# Altium footprint library ZhuKong.PcbLib: 34 footprints (part 1 of 3)
Each footprint in its own frame and in the unit in brackets; x right, y up, seen from the top. Pads: shape width x height; smd on the part's side, far side on the other; paste and mask are expansions set on the pad; w line width, h text height; cw(c..) or ccw(c..) is an arc to the next point about the centre after c.
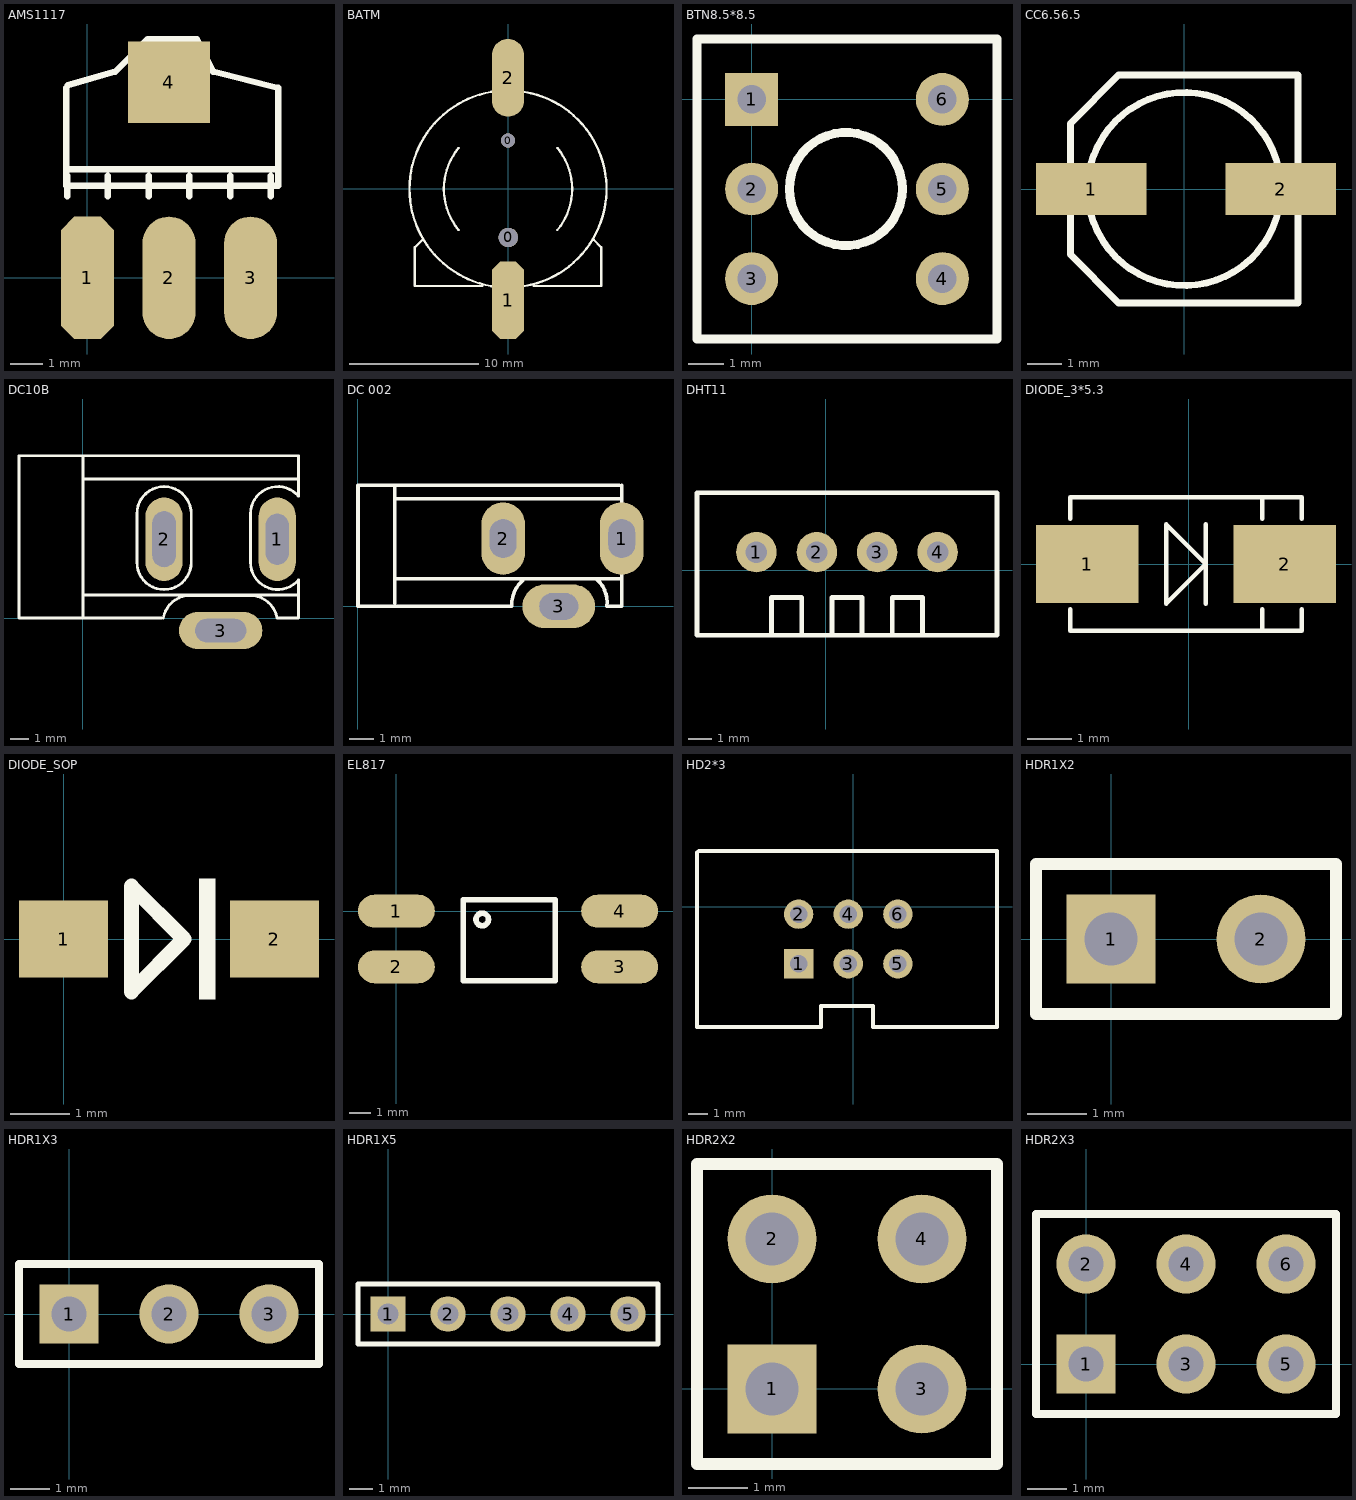
[diagram p0: the footprints below, top view; thin cyan lines are the x and y axes]

## AMS1117 [mil]
pads (4):
  oct 65x150 smd: 1(0.03,-0.06)
  oval 65x150 smd: 2(100.03,-0.06) 3(200.03,-0.06)
  rect 100x100 smd: 4(100.03,239.94)
Top Overlay:
  lines w7.87: -25.97,232.94 -25.97,132.94 ; -24.97,99.94 -24.97,124.94 ; -24.3,236.27 34.03,252.94 74.03,292.94 134.03,292.94 154.03,252.94 234.03,232.94 234.03,112.94 ; 25.03,99.94 25.03,124.94 ; 75.03,99.94 75.03,124.94 ; 125.03,99.94 125.03,124.94 ; 175.03,99.94 175.03,124.94 ; 225.03,99.94 225.03,124.94 ; -25.97,132.94 234.03,132.94 234.03,112.94 ; -25.97,132.94 -25.97,112.94 234.03,112.94
3D body: height 62.6, standoff -2.36, extent -27.94,-52.8 227.96,222.8

## BATM [mm]
pads (4):
  round 1.1 hole 1.1 unplated: 0(0,3.748)
  round 1.5 hole 1.5 unplated: 0(0.025,-3.752)
  oct 2.5x6 smd: 1(0,-8.602)
  oval 2.5x6 smd: 2(0,8.598)
Top Overlay:
  lines w0.178: -6.6,-3.902 -7.2,-4.502 -7.2,-7.502 -2,-7.502 ; -3.815,-3.171 cw(c0,-0.002) -3.812,3.171 ; -0.833,-7.576 cw(c0,-0.002) -7.62,-0.002 cw(c0,-0.002) -0.833,7.573 ; 0.833,-7.576 ccw(c0,-0.002) 0.833,7.573 ; 2,-7.502 7.2,-7.502 7.2,-4.502 6.625,-3.927 ; 3.81,-3.177 ccw(c0,-0.002) 3.812,3.171

## BTN8.5*8.5 [mm]
pads (6):
  rect 1.5x1.5 hole 0.8: 1(0,0)
  round 1.5 hole 0.8: 2(0,-2.54) 3(0,-5.08) 4(5.4,-5.08) 5(5.4,-2.54) 6(5.4,0)
Top Overlay:
  circle w0.254: c2.667,-2.54 r1.6
  lines w0.254: -1.55,-6.79 6.95,-6.79 6.95,1.71 -1.55,1.71 -1.55,-6.79
3D body: height 14, standoff -3.5, extent -1.397,-6.849 7.103,1.651

## CC6.56.5 [mm]
pads (2):
  rect 3.2x1.5 smd: 1(-2.7,0) 2(2.8,0)
Top Overlay:
  circle w0.2: c0,0 r2.8
  lines w0.2: -3.302,-1.905 -3.302,1.905 -1.905,3.302 3.302,3.302 3.302,-3.302 -1.905,-3.302 -3.302,-1.905
3D body: height 1.3, standoff 0, extent -2.215,-3.175 3.485,3.175

## DC10B [mil]
pads (3):
  oval 80x180 hole 50 slot 110 at 90 deg: 1(419.09,170)
  oval 80x180 hole 50 slot 120 at 90 deg: 2(175,170)
  oval 180x80 hole 50 slot 110 at 0 deg: 3(297.05,-26.85)
Top Overlay:
  lines w6: 0,50 465,50 ; 0,300 460.13,300 464.25,300 ; 5,350 -15,350 -137.8,350 -137.8,0 0,0 ; 169,0 0,0 ; 173.37,0.16 cw(c231,-10) 231,48.52 361,48.52 cw(c361,-10) 418.63,0.16 ; 420,0 465,0 465,80 ; 464.83,82.38 cw(c420,120) 361.48,120 361.48,225 cw(c420,225) 464.83,262.62 465,350 0,350 0,0 ; 233.52,225 ccw(c175,225) 116.48,225 116.48,120 ccw(c175,120) 233.52,120 233.52,225 ; 233.52,225 233.52,225
3D body: height 430, standoff -140, extent -130,-32.5 445,342.5

## DC 002 [mm]
pads (3):
  oval 1.8x3 hole 1.1 slot 1.6 at 90 deg: 1(10.9,2.8) 2(6,2.8)
  oval 3x1.8 hole 1.1 slot 1.6 at 0 deg: 3(8.3,0)
Top Overlay:
  lines w0.152: 1.524,0.127 1.524,5 ; 1.524,1.143 10.9,1.143 ; 1.524,4.445 10.9,4.445 ; 6.8,1.065 ccw(c7.683,0.064) 6.35,0 0,0 0,5 10.795,5 ; 9.874,1.107 cw(c9.065,0.174) 10.287,0 10.9,0 10.9,5

## DHT11 [mm]
pads (4):
  round 1.7 hole 0.9: 1(-2.921,0.762) 2(-0.381,0.762) 3(2.159,0.762) 4(4.699,0.762)
Top Overlay:
  lines w0.203: -5.421,-2.738 4.699,-2.738 7.199,-2.738 ; -5.421,-2.698 -5.421,0.762 -5.421,3.262 4.699,3.262 7.199,3.262 7.199,0.762 7.199,-2.698 ; -2.286,-2.738 -2.286,-1.143 -1.016,-1.143 -1.016,-2.738 ; 0.254,-2.738 0.254,-1.143 1.524,-1.143 1.524,-2.738 ; 2.794,-2.738 2.794,-1.143 4.064,-1.143 4.064,-2.738
3D body: height 7, standoff -3.4, extent -5.288,-2.923 7.112,3.177

## DIODE_3*5.3 [mm]
pads (2):
  rect 2.3x1.75 smd: 1(-2.286,0) 2(2.159,0)
Top Overlay:
  lines w0.1: -2.667,-1.016 -2.667,-1.5 2.54,-1.5 2.54,-1.016 ; -2.667,1.016 -2.667,1.5 2.54,1.5 2.54,1.016 ; 0.381,-0.889 0.381,0.889 ; 1.651,-1.5 1.651,-1.016 ; 1.651,1.016 1.651,1.5 ; -0.508,-0.889 -0.508,0.889 0.381,0 -0.508,-0.889
3D body: height 1.27, standoff 0, extent -1.977,-0.8 1.723,0.8

## DIODE_SOP [mm]
pads (2):
  rect 1.5x1.3 smd: 1(0,0) 2(3.556,0)
Top Overlay:
  rectangle: 2.286,-1.016 2.559,1.016
  lines w0.254: 1.143,-0.889 1.143,0.889 2.032,0 1.143,-0.889
3D body: height 1.27, standoff 0, extent -0.072,-0.8 3.628,0.8

## EL817 [mm]
pads (4):
  oval 3.5x1.5 smd: 1(0,0) 2(0,-2.54) 3(10.16,-2.54) 4(10.16,0)
Top Overlay:
  circle w0.254: c3.907,-0.381 r0.284
  lines w0.254: 3.048,-3.175 3.048,0.508 7.239,0.508 7.239,-3.175 3.048,-3.175

## HD2*3 [mm]
pads (6):
  rect 1.5x1.5 hole 0.9: 1(-2.794,-2.921)
  round 1.5 hole 0.9: 2(-2.794,-0.381) 3(-0.254,-2.921) 4(-0.254,-0.381) 5(2.286,-2.921) 6(2.286,-0.381)
Top Overlay:
  lines w0.2: -8.001,2.794 -8.001,-6.151 -1.651,-6.151 -1.651,-5.08 1.016,-5.08 1.016,-6.151 3.524,-6.151 7.366,-6.151 ; -7.904,2.849 7.366,2.849 7.366,-6.096
3D body: height 10.1, standoff -1.5, extent -4.064,-4.191 3.556,0.889

## HDR1X2 [mm] "Connector; Header; 2 Position"
pads (2):
  rect 1.5x1.5 hole 0.9: 1(0,0)
  round 1.5 hole 0.9: 2(2.54,0)
Top Overlay:
  lines w0.2: -1.27,-1.27 3.81,-1.27 3.81,1.27 -1.27,1.27 -1.27,-1.27
3D body: height 7.58, standoff -2.94, extent -1.27,-1.27 1.27,1.27
3D body: height 7.58, standoff -2.94, extent 1.27,-1.27 3.81,1.27

## HDR1X3 [mm] "Connector; Header; 3 Position"
pads (3):
  rect 1.5x1.5 hole 0.9: 1(0,0)
  round 1.5 hole 0.9: 2(2.54,0) 3(5.08,0)
Top Overlay:
  lines w0.2: -1.27,-1.27 6.35,-1.27 6.35,1.27 -1.27,1.27 -1.27,-1.27
3D body: height 7.58, standoff -2.94, extent 3.81,-1.27 6.35,1.27
3D body: height 7.58, standoff -2.94, extent 1.27,-1.27 3.81,1.27
3D body: height 7.58, standoff -2.94, extent -1.27,-1.27 1.27,1.27

## HDR1X5 [mm] "Connector; Header; 5 Position"
pads (5):
  rect 1.5x1.5 hole 0.9: 1(0,0)
  round 1.5 hole 0.9: 2(2.54,0) 3(5.08,0) 4(7.62,0) 5(10.16,0)
Top Overlay:
  lines w0.2: -1.27,-1.27 -1.27,1.27 11.43,1.27 11.43,-1.27 -1.27,-1.27
3D body: height 7.58, standoff -2.94, extent -1.27,-1.27 1.27,1.27
3D body: height 7.58, standoff -2.94, extent 1.27,-1.27 3.81,1.27
3D body: height 7.58, standoff -2.94, extent 3.81,-1.27 6.35,1.27
3D body: height 7.58, standoff -2.94, extent 6.35,-1.27 8.89,1.27
3D body: height 7.58, standoff -2.94, extent 8.89,-1.27 11.43,1.27

## HDR2X2 [mm]
pads (4):
  rect 1.5x1.5 hole 0.9: 1(0,0)
  round 1.5 hole 0.9: 2(0,2.54) 3(2.54,0) 4(2.54,2.54)
Top Overlay:
  lines w0.2: -1.27,-1.27 -1.27,3.81 3.81,3.81 3.81,-1.27 -1.27,-1.27
3D body: height 10.1, standoff -1.5, extent -1.27,-1.27 3.81,3.81

## HDR2X3 [mm]
pads (6):
  rect 1.5x1.5 hole 0.9: 1(0,0)
  round 1.5 hole 0.9: 2(0,2.54) 3(2.54,0) 4(2.54,2.54) 5(5.08,0) 6(5.08,2.54)
Top Overlay:
  lines w0.2: 1.482,-1.27 6.35,-1.27 ; 6.35,-1.27 6.35,3.81 -1.27,3.81 -1.27,-1.27 6.35,-1.27
3D body: height 10.1, standoff -1.5, extent -1.27,-1.27 6.35,3.81